# Altium footprint library Eurobot_lib.PcbLib: 52 footprints (part 3 of 4)
Each footprint in its own frame and in the unit in brackets; x right, y up, seen from the top. Pads: shape width x height; smd on the part's side, far side on the other; paste and mask are expansions set on the pad; w line width, h text height; cw(c..) or ccw(c..) is an arc to the next point about the centre after c.
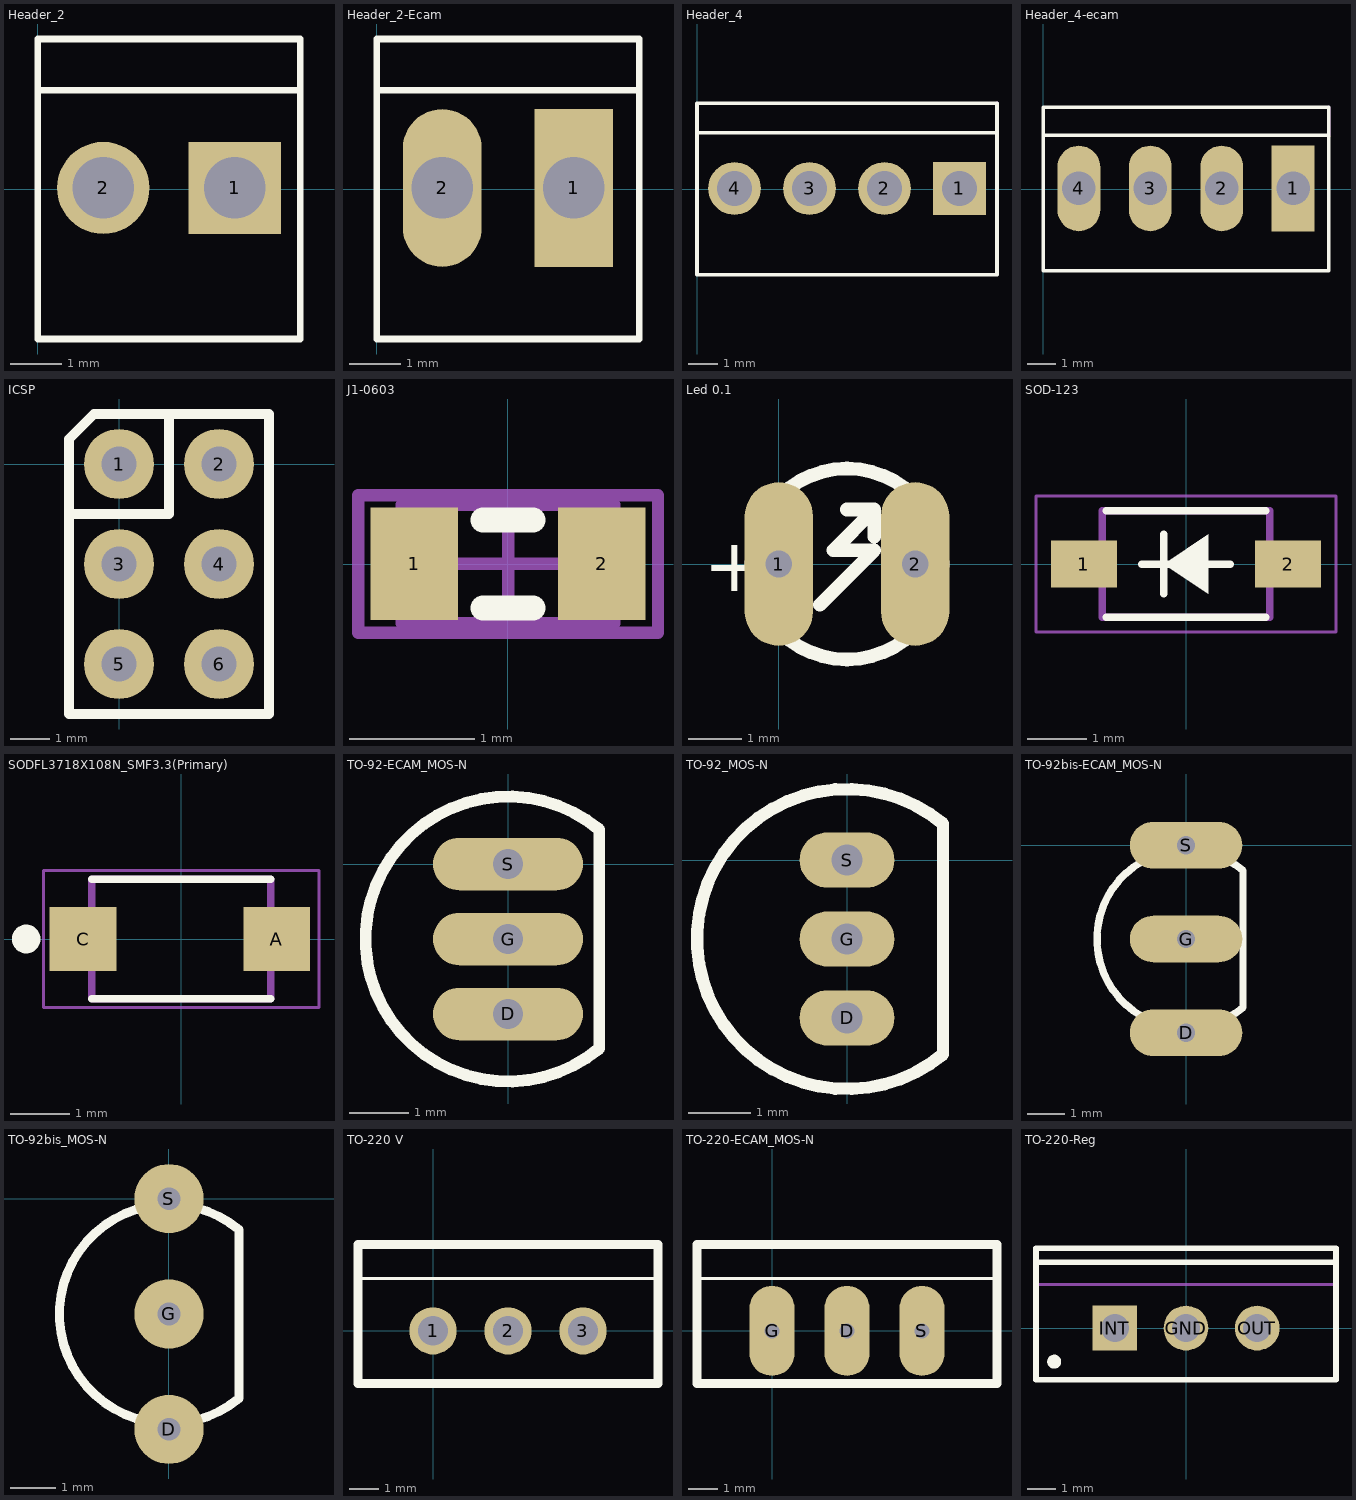
[diagram p2: the footprints below, top view; thin cyan lines are the x and y axes]

## Header_2 [mm]
pads (2):
  rect 1.785x1.785 hole 1.19: 1(3.81,0.02)
  round 1.785 hole 1.19: 2(1.27,0.02)
Top Overlay:
  lines w0.127: 0,1.905 5.08,1.905 ; 0,-2.9 5.08,-2.9 5.08,0 5.08,2.9 0,2.9 0,-2.9

## Header_2-Ecam [mil]
pads (2):
  rect 60x120 hole 46.85: 1(150,0.79)
  oval 60x120 hole 46.85: 2(50,0.79)
Top Overlay:
  lines w5: 0,75 200,75 ; 0,-114.17 0,114.17 200,114.17 200,0 200,-114.17 0,-114.17

## Header_4 [mm]
pads (4):
  rect 1.785x1.785 hole 1.19: 1(8.89,0.02)
  round 1.785 hole 1.19: 2(6.35,0.02) 3(3.81,0.02) 4(1.27,0.02)
Top Overlay:
  lines w0.127: 0,1.905 10.16,1.905 ; 0,-2.9 0,2.9 10.16,2.9 10.16,-2.9 0,-2.9
Mechanical 4:
  circle w0.2: c8.89,0 r0.1
  circle w0.2: c8.89,0 r0.1
  lines w0.127: 10.16,1.9 10.16,2.9

## Header_4-ecam [mil]
pads (4):
  rect 60x120 hole 46.85: 1(350,0.79)
  oval 60x120 hole 46.85: 2(250,0.79) 3(150,0.79) 4(50,0.79)
Top Overlay:
  lines w5: 0,75 400,75 ; 0,-114.17 0,114.17 400,114.17 400,-114.17 0,-114.17
Mechanical 4:
  circle w7.87: c350,0 r3.94
  circle w7.87: c350,0 r3.94
  lines w5: 400,74.8 400,114.17

## ICSP [mil]
pads (6):
  round 70 hole 35.43: 1(0,0) 2(100,0) 3(0,-100) 4(100,-100) 5(0,-200) 6(100,-200)
Top Overlay:
  lines w10: -50,-50 50,-50 50,50 ; -50,-250 150,-250 150,50 -25,50 -50,25 -50,-250
3D body "ICSP.stp": height 484.65, standoff -105.84, extent -49.99,-249.99 150.01,50.01

## J1-0603 [mm] "Chip Resistor, Body 1.6x0.8mm, IPC High Density"
height 0.9
pads (2):
  rect 0.7x0.9 smd: 1(-0.75,0) 2(0.75,0)
Top Overlay:
  lines w0.2: -0.2,-0.35 0.2,-0.35 ; -0.2,0.35 0.2,0.35
Mechanical 13:
  lines w0.1: -0.85,-0.475 0.85,-0.475 0.85,0.475 -0.85,0.475 -0.85,-0.475
Mechanical 15:
  lines w0.1: -0.475,0 0.475,0 ; 0,-0.475 0,0.475 ; -1.2,-0.55 1.2,-0.55 1.2,0.55 -1.2,0.55 -1.2,-0.55
3D body: height 0.9, standoff 0, extent -0.85,-0.475 0.85,0.475

## Led 0.1 [mil] "Led Verticale"
height 314.96
pads (2):
  oval 50x120 hole 19.68: 1(0,0) 2(100,0)
Top Overlay:
  circle w10: c50,0 r70
  lines w10: 30,-30 70,10 40,10 70,40 ; 50,40 70,40 ; 70,20 70,40
  text "+" at -55,-20 h39.37

## SOD-123 [mm]
pads (2):
  rect 1.12x0.8 smd: 1(-1.73,0) 2(1.73,0)
Top Overlay:
  region: -0.375,0 0.375,0.5 0.375,-0.5
  lines w0.127: -1.35,-0.9 1.35,-0.9 ; -1.35,0.9 1.35,0.9 ; -0.75,0 0.75,0 ; -0.375,-0.5 -0.375,0.5
Mechanical 4:
  lines w0.127: -1.42,-0.9 1.42,-0.9 ; -1.42,-0.9 -1.42,0.9 ; -1.42,-0.9 1.42,-0.9 ; -1.42,-0.9 -1.42,0.9 ; -1.42,0.9 1.42,0.9 ; -1.42,0.9 1.42,0.9 ; 1.42,-0.9 1.42,0.9 ; 1.42,-0.9 1.42,0.9
Mechanical 16:
  lines w0.05: -2.54,-1.15 -2.54,1.15 2.54,1.15 2.54,-1.15 -2.54,-1.15

## SODFL3718X108N_SMF3.3(Primary) [mm]
pads (2):
  rect 1.12x1.08 smd: A(1.6,0) C(-1.645,0)
Top Overlay:
  circle w0.24: c-2.6,0 r0.12
  lines w0.127: -1.5,-1 1.5,-1 ; -1.5,1 1.5,1
Mechanical 4:
  lines w0.127: -1.5,-1 -1.5,1 ; -1.5,-1 1.5,-1 ; -1.5,-1 -1.5,1 ; -1.5,-1 1.5,-1 ; -1.5,1 1.5,1 ; -1.5,1 1.5,1 ; 1.5,-1 1.5,1 ; 1.5,-1 1.5,1
Mechanical 16:
  lines w0.05: -2.31,-1.15 -2.31,1.15 2.31,1.15 2.31,-1.15 -2.31,-1.15

## TO-92-ECAM_MOS-N [mil] "TO, Flat Index; 3 In-Line, Axial Leads; Body Dia. 4.6mm; Leads 0.48 x 0.43 mm (max) NOT ECAM RULES"
height 195
pads (3):
  oval 100x35 hole 19.68: D(0,-100) G(0,-50) S(0,0)
Top Overlay:
  lines w7.87: 60.82,-122.98 cw(c0,-50) 60.82,22.98 60.82,-122.98

## TO-92_MOS-N [mil] "TO, Flat Index; 3 In-Line, Axial Leads; Body Dia. 4.6mm; Leads 0.48 x 0.43 mm (max) NOT ECAM RULES"
height 195
pads (3):
  oval 60x35 hole 19.68: D(0,-100) G(0,-50) S(0,0)
Top Overlay:
  lines w7.87: 60.82,-122.98 cw(c0,-50) 60.82,22.98 60.82,-122.98

## TO-92bis-ECAM_MOS-N [mil] "TO, Flat Index; 3 In-Line, Axial Leads; Body Dia. 4.6mm; Leads 0.48 x 0.43 mm (max)"
height 195
pads (3):
  oval 120x50 hole 19.68: D(0,-200) G(0,-100) S(0,0)
Top Overlay:
  lines w7.87: 60.82,-172.98 cw(c0,-100) 60.82,-27.02 60.82,-172.98

## TO-92bis_MOS-N [mil] "TO, Flat Index; 3 In-Line, Axial Leads; Body Dia. 4.6mm; Leads 0.48 x 0.43 mm (max)"
height 195
pads (3):
  round 60 hole 19.68: D(0,-200) G(0,-100) S(0,0)
Top Overlay:
  lines w7.87: 60.82,-172.98 cw(c0,-100) 60.82,-27.02 60.82,-172.98

## TO-220 V [mm] "TO-220 Vertical"
height 20
pads (3):
  round 1.6 hole 1: 1(0,0) 2(2.54,0) 3(5.08,0)
Top Overlay:
  lines w0.102: -2.54,1.778 7.62,1.778
  lines w0.305: -2.54,-1.778 -2.54,1.778 -2.54,2.921 7.62,2.921 7.62,1.778 7.62,-1.778 -2.54,-1.778

## TO-220-ECAM_MOS-N [mil] "TO-220 Vertical"
height 787.4
pads (3):
  oval 60x120 hole 19.68: D(100,0) G(0,0) S(200,0)
Top Overlay:
  lines w4: -100,70 300,70
  lines w12: -100,-70 -100,70 -100,115 300,115 300,70 300,-70 -100,-70

## TO-220-Reg [mm] "TO, Thru-Hole, Vertical, Heatsink Mounted; 3 In-Line Leads; Pitch 2.54 mm"
height 19.3
pads (3):
  round 1.6 hole 1: GND(0,0) OUT(2.54,0)
  rect 1.6x1.6 hole 1: INT(-2.54,0)
Top Overlay:
  circle w0.25: c-4.7,-1.2 r0.125
  lines w0.2: -5.35,2.35 5.35,2.35 ; -5.35,-1.85 5.35,-1.85 5.35,2.85 -5.35,2.85 -5.35,-1.85
Mechanical 13:
  lines w0.1: -5.35,1.55 5.35,1.55 ; -5.35,-1.85 -5.35,2.85 5.35,2.85 5.35,-1.85 -5.35,-1.85
Mechanical 15:
  lines w0.1: -0.5,0 0.5,0 ; 0,-0.5 0,0.5
3D body: height 19.3, standoff 12.9, extent -5.349,1.551 5.349,2.849
3D body: height 12.9, standoff 4, extent -5.4,-1.9 5.4,2.9